# Altium integrated library YX7525P.IntLib: 1 symbol
Pins are listed as number, name and electrical type; pins without a type are passive.

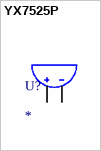
[diagram p0: symbol YX7525P]

## YX7525P
designator U?
footprint PCBComponent_1
pins: 1, 2